# Altium footprint library SSOP24-BL6523B.PcbLib: 1 footprints
Each footprint in its own frame and in the unit in brackets; x right, y up, seen from the top. Pads: shape width x height; smd on the part's side, far side on the other; paste and mask are expansions set on the pad; w line width, h text height; cw(c..) or ccw(c..) is an arc to the next point about the centre after c.
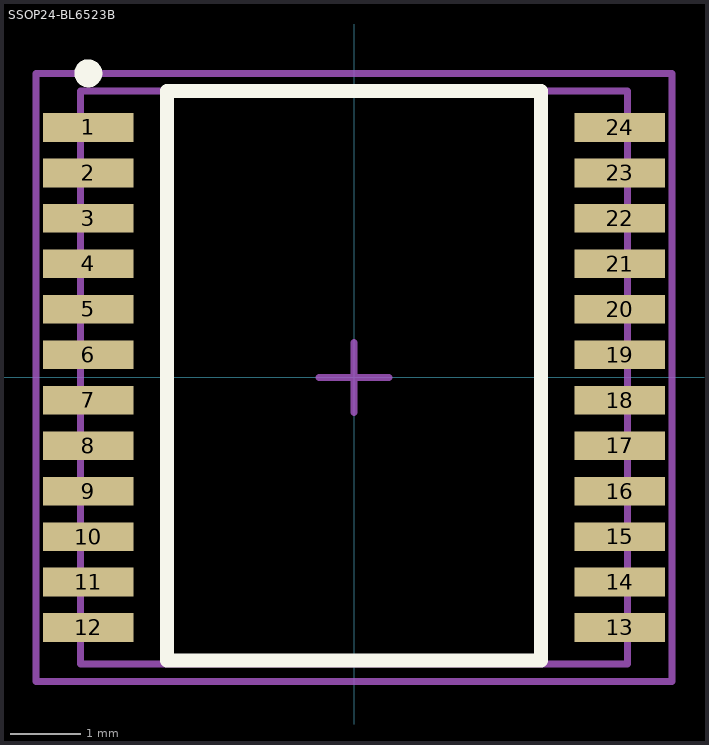
[diagram p0: the footprint, top view; thin cyan lines are the x and y axes]

## SSOP24-BL6523B [mm] "Pitch0.65mm Body8.5X5.5 mm High 1.85mm"
height 1.85
pads (24):
  rect 1.3x0.41 smd: 1(-3.8,3.575) 2(-3.8,2.925) 3(-3.8,2.275) 4(-3.8,1.625) 5(-3.8,0.975) 6(-3.8,0.325) 7(-3.8,-0.325) 8(-3.8,-0.975) 9(-3.8,-1.625) 10(-3.8,-2.275) 11(-3.8,-2.925) 12(-3.8,-3.575) 13(3.8,-3.575) 14(3.8,-2.925) 15(3.8,-2.275) 16(3.8,-1.625) 17(3.8,-0.975) 18(3.8,-0.325) 19(3.8,0.325) 20(3.8,0.975) 21(3.8,1.625) 22(3.8,2.275) 23(3.8,2.925) 24(3.8,3.575)
Top Overlay:
  circle w0.2: c-3.8,4.35 r0.1
  lines w0.2: -2.675,-4.05 -2.675,4.1 2.675,4.1 2.675,-4.05 -2.675,-4.05
Mechanical 13:
  lines w0.1: -3.91,-4.1 -3.91,4.1 3.91,4.1 3.91,-4.1 -3.91,-4.1
Mechanical 15:
  lines w0.1: -0.5,0 0.5,0 ; 0,-0.5 0,0.5 ; -4.55,-4.35 -4.55,4.35 4.55,4.35 4.55,-4.35 -4.55,-4.35
3D body: height 1.85, standoff -0.03, extent -3.91,-4.1 3.91,4.1